# Altium footprint library RESAD2870W80L1190D420.PcbLib: 1 footprints
Each footprint in its own frame and in the unit in brackets; x right, y up, seen from the top. Pads: shape width x height; smd on the part's side, far side on the other; paste and mask are expansions set on the pad; w line width, h text height; cw(c..) or ccw(c..) is an arc to the next point about the centre after c.
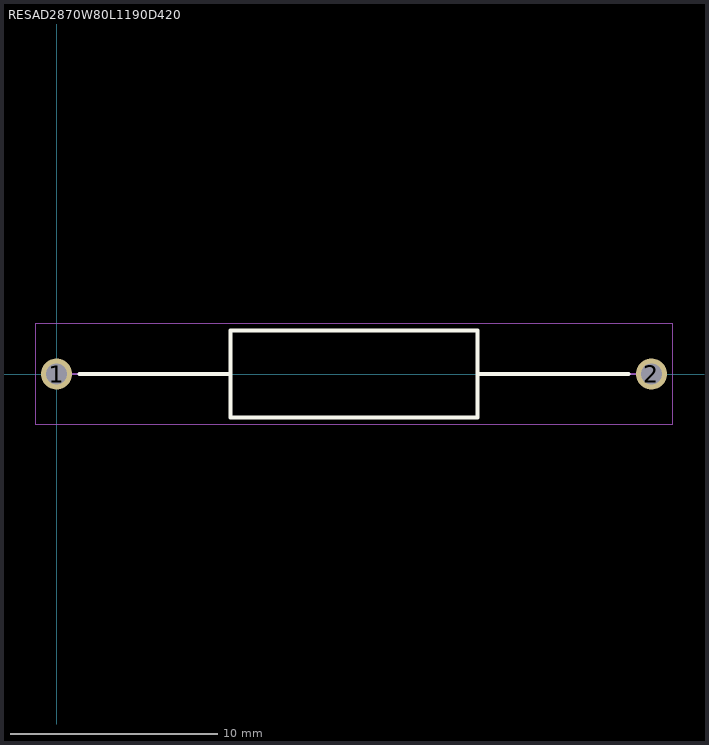
[diagram p0: the footprint, top view; thin cyan lines are the x and y axes]

## RESAD2870W80L1190D420 [mm]
pads (2):
  round 1.5 hole 1: 1(0,0) 2(28.7,0)
Top Overlay:
  lines w0.2: 1.1,0 8.4,0 ; 20.3,0 27.6,0 ; 8.4,-2.1 20.3,-2.1 20.3,2.1 8.4,2.1 8.4,-2.1
Mechanical 15:
  lines w0.1: 0,0 8.4,0 ; 20.3,0 28.7,0 ; 8.4,-2.1 20.3,-2.1 20.3,2.1 8.4,2.1 8.4,-2.1
Mechanical 20:
  lines w0.05: -1,-2.45 29.7,-2.45 29.7,2.45 -1,2.45 -1,-2.45